# Altium schematic symbol library EDU_High-Speed-Design.SchLib: 69 symbols (part 2 of 2)
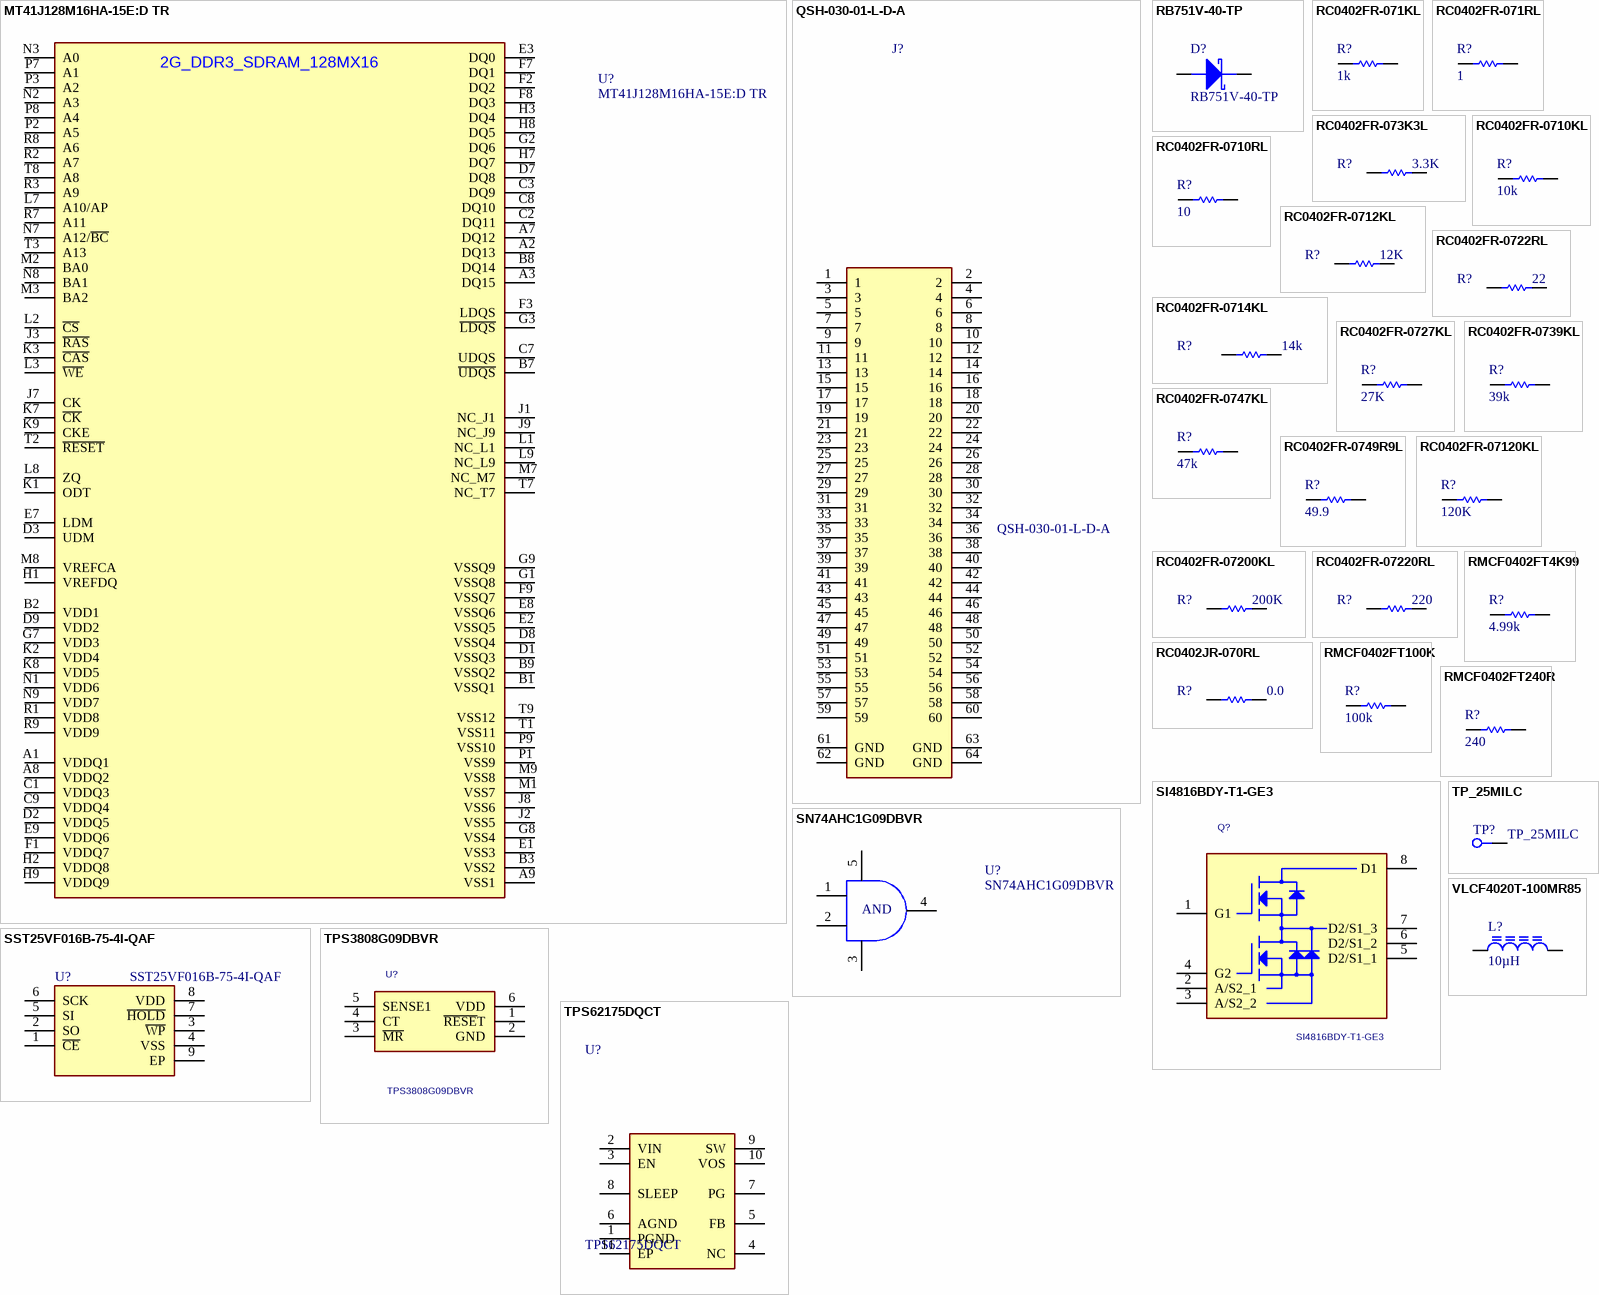
[diagram p8: symbols MT41J128M16HA-15E:D TR to VLCF4020T-100MR85]

## SN74AHC1G09DBVR
designator U?
IC GATE AND SGL 2INP SOT23-5; Manufacturer: Texas Instruments; Logic Type: AND Gate; Number of Circuits: 1; Number of Inputs: 2; Voltage - Supply: 2 V ~ 5.5 V; Current - Quiescent (Max): 1µA; Current - Output High, Low: -, 8mA; Logic Level - Low: 0.5 V ~ 1.65 V; Logic Level - High: 1.5 V ~ 3.85 V; Max Propagation Delay @ V, Max CL: 7.5ns @ 5V, 50pF; .Creator: MM; .Checked PCB: RF, used by MM; .Checked SCH: MM, checked by RF; Supplier 1: Digi-Key; Manufacturer Part Number: SN74AHC1G09DBVR; RoHS: RoHS Compliant; Category: Integrated Circuits (ICs); Stock 1: 3468; Pricing 1: 1=0.49, 10=0.345, 25=0.2836, 100=0.2265, 250=0.165, 500=0.134, 1000=0.103 (USD); Features: Open Drain; Operating Temperature: -55°C ~ 125°C; Mounting Type: Surface Mount; Supplier Device Package: SOT-23-5; Package / Case: SC-74A, SOT-753; Packaging: Cut Tape (CT); ComponentLink1URL: http://www.ti.com/lit/ds/symlink/sn74ahc1g09.pdf; ComponentLink1Description: http://www.ti.com/lit/ds/symlink/sn74ahc1g09.pdf; Supplier Part Number 1: 296-29202-1-ND
footprint SOT-23-5 (DBV package, 5-Leads, 2.8mm x 2.9mm)
pins: 1 A, 2 B, 3 GND, 4 Y, 5 VCC
text: AND

## SST25VF016B-75-4I-QAF
designator U?
IC FLASH 16MBIT 75MHZ 8WSON; Manufacturer 1: Microchip Technology; Supplier 1: Digi-Key; Manufacturer Part Number 1: SST25VF016B-75-4I-QAF; ComponentLink1URL: http://ww1.microchip.com/downloads/en/DeviceDoc/25044A.pdf; ComponentLink1Description: http://ww1.microchip.com/downloads/en/DeviceDoc/25044A.pdf; Supplier Part Number 1: SST25VF016B-75-4I-QAF-ND
footprint SST25VF016B (8-WSON, 6.00mm L x 5.00mm W)
pins: 1 ~{CE}, 2 SO, 3 ~{WP}, 4 VSS, 5 SI, 6 SCK, 7 ~{HOLD}, 8 VDD, 9 EP

## TP_25MILC
designator TP?  (no BOM)
TEST POINT 25MIL
footprint TP_25C
pins: 1

## TPS3808G09DBVR
designator U?
IC VOLT SUPERVISOR 0.9V SOT23-6; Manufacturer 1: Texas Instruments; Manufacturer Part Number 1: TPS3808G09DBVR; Supplier 1: Digi-Key; Supplier Part Number 1: 296-17189-1-ND; ComponentLink1URL: http://www.ti.com/lit/ds/symlink/tps3808g01.pdf; ComponentLink1Description: http://www.ti.com/lit/ds/symlink/tps3808g01.pdf
footprint SOT-23-6 (2.9mm L x 2.8mm W)
pins: 1 ~{RESE}T, 2 GND, 3 ~{MR}, 4 CT, 5 SENSE1, 6 VDD

## TPS62175DQCT
designator U?
IC REG BUCK SYNC ADJ 0.5A 10WSON; Manufacturer 1: Texas Instruments; Supplier 1: Digi-Key; Manufacturer Part Number 1: TPS62175DQCT; ComponentLink1URL: http://www.ti.com/lit/ds/symlink/tps62175.pdf; ComponentLink1Description: http://www.ti.com/lit/ds/symlink/tps62175.pdf; Supplier Part Number 1: 296-35096-1-ND
footprint TPS62175DQCT (10-WSON, 3.00mm L x 2.00mm W)
pins: 1 PGND, 2 VIN, 3 EN, 4 NC, 5 FB, 6 AGND, 7 PG, 8 SLEEP, 9 SW, 10 VOS, 11 EP

## VLCF4020T-100MR85
designator L?, comment 10µH
INDUCTOR POWER 10UH .85A SMD; Manufacturer 1: TDK Corporation; Manufacturer Part Number 1: VLCF4020T-100MR85; Current Rating: 850mA; Supplier 1: Digi-Key; Inductance: 10µH; Current - Saturation: 850mA; ComponentLink1URL: http://www.tdk.co.jp/tefe02/e531_vlcf.pdf; ComponentLink1Description: http://www.tdk.co.jp/tefe02/e531_vlcf.pdf; Supplier Part Number 1: 445-3186-1-ND
footprint VLCF4020
pins: 1, 2